# EAGLE library part 050_610_?-50/100 (library con-sullinselectronics)
.050 DIP EDGE CARD CONNECTOR .050 [1.27mm] CONTACT CENTERS .610" INSULATEOR HEIGHT Source: .050 DIP EDGE CARD.pdf
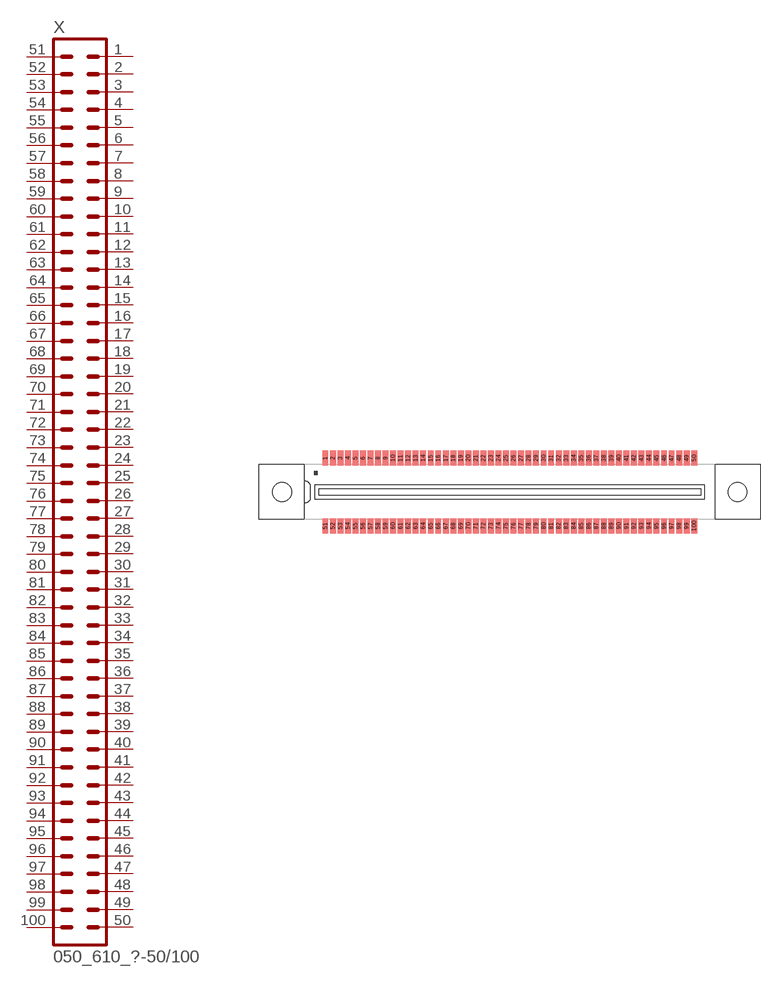
[diagram p2: symbol with the pads of 050_610_HF-50/100; footprint 050_610_HF-50/100]

Designator prefix X

## 050_610_HF-50/100 (OC_FARNELL: unknown; OC_NEWARK: unknown)  [050_610_HF-50/100]
1  1  pas
2  2  pas
3  3  pas
4  4  pas
5  5  pas
6  6  pas
7  7  pas
8  8  pas
9  9  pas
10  10  pas
11  11  pas
12  12  pas
13  13  pas
14  14  pas
15  15  pas
16  16  pas
17  17  pas
18  18  pas
19  19  pas
20  20  pas
21  21  pas
22  22  pas
23  23  pas
24  24  pas
25  25  pas
26  26  pas
27  27  pas
28  28  pas
29  29  pas
30  30  pas
31  31  pas
32  32  pas
33  33  pas
34  34  pas
35  35  pas
36  36  pas
37  37  pas
38  38  pas
39  39  pas
40  40  pas
41  41  pas
42  42  pas
43  43  pas
44  44  pas
45  45  pas
46  46  pas
47  47  pas
48  48  pas
49  49  pas
50  50  pas
51  51  pas
52  52  pas
53  53  pas
54  54  pas
55  55  pas
56  56  pas
57  57  pas
58  58  pas
59  59  pas
60  60  pas
61  61  pas
62  62  pas
63  63  pas
64  64  pas
65  65  pas
66  66  pas
67  67  pas
68  68  pas
69  69  pas
70  70  pas
71  71  pas
72  72  pas
73  73  pas
74  74  pas
75  75  pas
76  76  pas
77  77  pas
78  78  pas
79  79  pas
80  80  pas
81  81  pas
82  82  pas
83  83  pas
84  84  pas
85  85  pas
86  86  pas
87  87  pas
88  88  pas
89  89  pas
90  90  pas
91  91  pas
92  92  pas
93  93  pas
94  94  pas
95  95  pas
96  96  pas
97  97  pas
98  98  pas
99  99  pas
100  100  pas

## Footprint 050_610_HF-50/100 (pad centres in mm)
.050 DIP EDGE CARD CONNECTOR SURFACE MOUNT .050 [1.27mm] CONTACT CENTERS .610" INSULATEOR HEIGHT Source: .050 DIP EDGE CARD.pdf
smd 1 x 2.5: 1 -31.115,5.715; 2 -29.845,5.715; 3 -28.575,5.715; 4 -27.305,5.715; 5 -26.035,5.715; 6 -24.765,5.715; 7 -23.495,5.715; 8 -22.225,5.715; 9 -20.955,5.715; 10 -19.685,5.715; 11 -18.415,5.715; 12 -17.145,5.715; 13 -15.875,5.715; 14 -14.605,5.715; 15 -13.335,5.715; 16 -12.065,5.715; 17 -10.795,5.715; 18 -9.525,5.715; 19 -8.255,5.715; 20 -6.985,5.715; 21 -5.715,5.715; 22 -4.445,5.715; 23 -3.175,5.715; 24 -1.905,5.715; 25 -0.635,5.715; 26 0.635,5.715; 27 1.905,5.715; 28 3.175,5.715; 29 4.445,5.715; 30 5.715,5.715; 31 6.985,5.715; 32 8.255,5.715; 33 9.525,5.715; 34 10.795,5.715; 35 12.065,5.715; 36 13.335,5.715; 37 14.605,5.715; 38 15.875,5.715; 39 17.145,5.715; 40 18.415,5.715; 41 19.685,5.715; 42 20.955,5.715; 43 22.225,5.715; 44 23.495,5.715; 45 24.765,5.715; 46 26.035,5.715; 47 27.305,5.715; 48 28.575,5.715; 49 29.845,5.715; 50 31.115,5.715; 51 -31.115,-5.715; 52 -29.845,-5.715; 53 -28.575,-5.715; 54 -27.305,-5.715; 55 -26.035,-5.715; 56 -24.765,-5.715; 57 -23.495,-5.715; 58 -22.225,-5.715; 59 -20.955,-5.715; 60 -19.685,-5.715; 61 -18.415,-5.715; 62 -17.145,-5.715; 63 -15.875,-5.715; 64 -14.605,-5.715; 65 -13.335,-5.715; 66 -12.065,-5.715; 67 -10.795,-5.715; 68 -9.525,-5.715; 69 -8.255,-5.715; 70 -6.985,-5.715; 71 -5.715,-5.715; 72 -4.445,-5.715; 73 -3.175,-5.715; 74 -1.905,-5.715; 75 -0.635,-5.715; 76 0.635,-5.715; 77 1.905,-5.715; 78 3.175,-5.715; 79 4.445,-5.715; 80 5.715,-5.715; 81 6.985,-5.715; 82 8.255,-5.715; 83 9.525,-5.715; 84 10.795,-5.715; 85 12.065,-5.715; 86 13.335,-5.715; 87 14.605,-5.715; 88 15.875,-5.715; 89 17.145,-5.715; 90 18.415,-5.715; 91 19.685,-5.715; 92 20.955,-5.715; 93 22.225,-5.715; 94 23.495,-5.715; 95 24.765,-5.715; 96 26.035,-5.715; 97 27.305,-5.715; 98 28.575,-5.715; 99 29.845,-5.715; 100 31.115,-5.715
hole 3.18 at -38.43,0
hole 3.18 at 38.43,0